# Altium footprint library RT314024.PcbLib: 1 footprints
Each footprint in its own frame and in the unit in brackets; x right, y up, seen from the top. Pads: shape width x height; smd on the part's side, far side on the other; paste and mask are expansions set on the pad; w line width, h text height; cw(c..) or ccw(c..) is an arc to the next point about the centre after c.
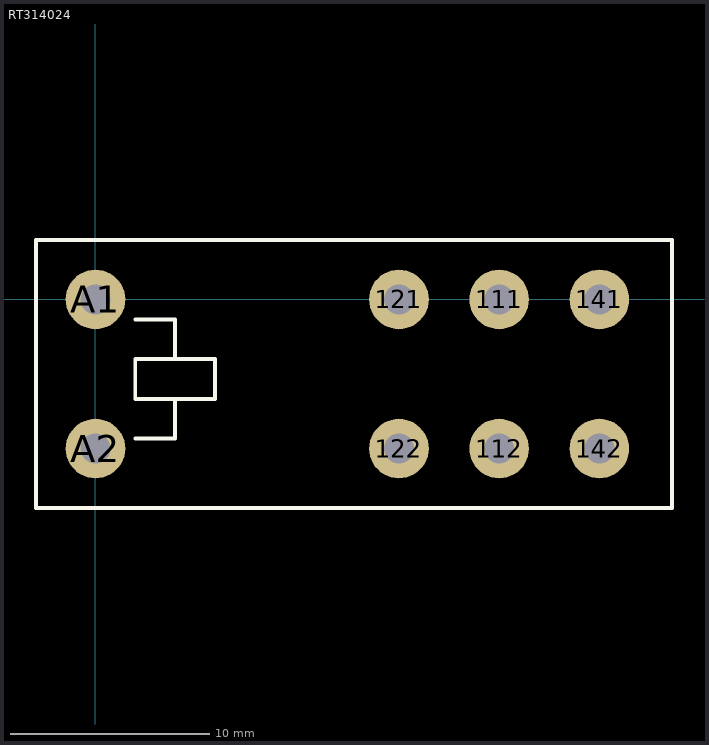
[diagram p0: the footprint, top view; thin cyan lines are the x and y axes]

## RT314024 [mm]
pads (8):
  round 3 hole 1.5: 111(20.3,0) 112(20.3,-7.5) 121(15.26,0) 122(15.26,-7.5) 141(25.34,0) 142(25.34,-7.5) A1(0,0) A2(0,-7.5)
Top Overlay:
  lines w0.2: 2,-7 4,-7 4,-5 ; 2,-1 4,-1 4,-3 ; -3,-10.5 29,-10.5 29,3 -3,3 -3,-10.5 ; 2,-5 6,-5 6,-3 2,-3 2,-5